# EAGLE library part STM8L052C6 (library Tristan+Robitaille_s+Library)
STM8L052C6 8-bit ultra-low-power MCU Technical Specifications: Voltage supply: 1.8V to 3.6V Current consumption: 350nA (Halt-mode), 195 uA/mHz + 440uA (run mode) 32 kB Flash Datasheet: STM8L052C6 <http://www.st.com/content/ccc/resource/technical/document/datasheet/05/b6/38/25/7d/c5/4b/cd/DM00057687.pdf/files/DM00057687.pdf/jcr:content/translations/en.DM00057687.pdf> Digi-Key part #: 497-13041-ND <https://www.digikey.ca/products/en?keywords=STM8L052C6> Mouser part #: 511-STM8L052C6T6 <http://ca.mouser.com/ProductDetail/STMicroelectronics/STM8L052C6T6/?qs=%2fha2pyFadujWS%252bdIFY59FnaQber8uWUNbEuF7vpkVvapo01kgfKJDQ%3d%3d> Manufacturer part #: STM8L052C6T6
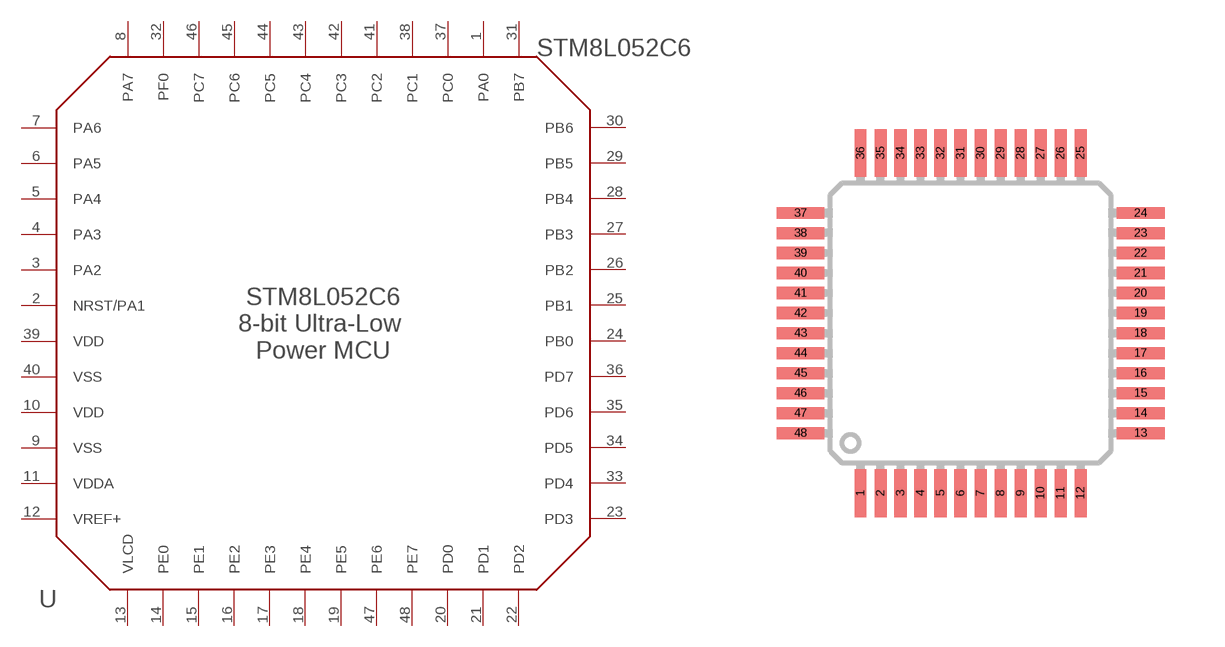
[diagram p27: symbol with the pads of LQFP48; footprint LQFP48]

Designator prefix U

## STM8L052C6 (DIGIKEY#: 497-13041-ND; MANF: STM8L052C6 8-bit ultra-low power MCU; MANF#: STM8L052C6T6; MOUSER#: 511-STM8L052C6T6)  [LQFP48]
1  PA0
2  NRST/PA1
3  PA2
4  PA3
5  PA4
6  PA5
7  PA6
8  PA7
9  VSS  pwr
10  VDD  pwr
11  VDDA  pwr
12  VREF+  pwr
13  VLCD  pwr
14  PE0
15  PE1
16  PE2
17  PE3
18  PE4
19  PE5
20  PD0
21  PD1
22  PD2
23  PD3
24  PB0
25  PB1
26  PB2
27  PB3
28  PB4
29  PB5
30  PB6
31  PB7
32  PF0
33  PD4
34  PD5
35  PD6
36  PD7
37  PC0
38  PC1
39  VDD  pwr
40  VSS  pwr
41  PC2
42  PC3
43  PC4
44  PC5
45  PC6
46  PC7
47  PE6
48  PE7

## Footprint LQFP48 (pad centres in mm)
smd 0.3 x 1.2: 1 -2.75,-4.25; 2 -2.25,-4.25; 3 -1.75,-4.25; 4 -1.25,-4.25; 5 -0.75,-4.25; 6 -0.25,-4.25; 7 0.25,-4.25; 8 0.75,-4.25; 9 1.25,-4.25; 10 1.75,-4.25; 11 2.25,-4.25; 12 2.75,-4.25; 25 2.75,4.25; 26 2.25,4.25; 27 1.75,4.25; 28 1.25,4.25; 29 0.75,4.25; 30 0.25,4.25; 31 -0.25,4.25; 32 -0.75,4.25; 33 -1.25,4.25; 34 -1.75,4.25; 35 -2.25,4.25; 36 -2.75,4.25
smd 1.2 x 0.3: 13 4.25,-2.75; 14 4.25,-2.25; 15 4.25,-1.75; 16 4.25,-1.25; 17 4.25,-0.75; 18 4.25,-0.25; 19 4.25,0.25; 20 4.25,0.75; 21 4.25,1.25; 22 4.25,1.75; 23 4.25,2.25; 24 4.25,2.75; 37 -4.25,2.75; 38 -4.25,2.25; 39 -4.25,1.75; 40 -4.25,1.25; 41 -4.25,0.75; 42 -4.25,0.25; 43 -4.25,-0.25; 44 -4.25,-0.75; 45 -4.25,-1.25; 46 -4.25,-1.75; 47 -4.25,-2.25; 48 -4.25,-2.75